# EAGLE library part FT230X (library pepin)
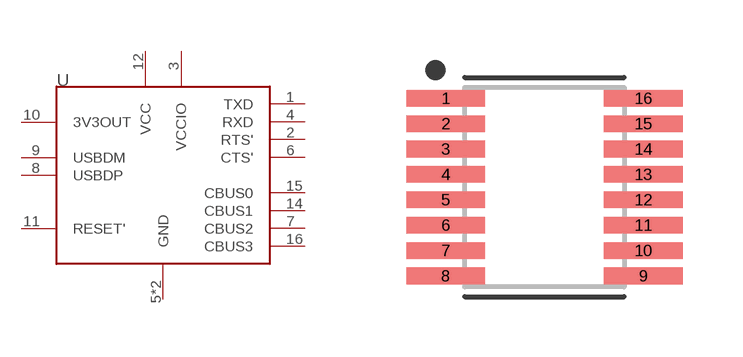
[diagram p13: symbol with the pads of SOP63P599X175-16; footprint SOP63P599X175-16]

Designator prefix U

## FT230XSSOP16  [SOP63P599X175-16]
1  TXD
2  RTS'
3  VCCIO  pwr
4  RXD
5  GND  pwr
6  CTS'
7  CBUS2
8  USBDP
9  USBDM
10  3V3OUT
11  RESET'
12  VCC  pwr
13  GND  pwr
14  CBUS1
15  CBUS0
16  CBUS3

## Footprint SOP63P599X175-16 (pad centres in mm)
16-SOP, 0.64 mm pitch, 5.99 mm span, 4.90 X 3.90 X 1.75 mm body 16-pin SOP package with 0.64 mm pitch, 5.99 mm span with body size 4.90 X 3.90 X 1.75 mm
smd 1.972 x 0.414: 1 -2.471,2.223; 2 -2.471,1.587; 3 -2.471,0.953; 4 -2.471,0.318; 5 -2.471,-0.318; 6 -2.471,-0.953; 7 -2.471,-1.587; 8 -2.471,-2.223; 9 2.471,-2.223; 10 2.471,-1.587; 11 2.471,-0.953; 12 2.471,-0.318; 13 2.471,0.318; 14 2.471,0.953; 15 2.471,1.587; 16 2.471,2.223